# Altium footprint library PCB - SWITCH - NIDEC COPAL CS-4-13NTA.PCBLIB: 1 footprints
Each footprint in its own frame and in the unit in brackets; x right, y up, seen from the top. Pads: shape width x height; smd on the part's side, far side on the other; paste and mask are expansions set on the pad; w line width, h text height; cw(c..) or ccw(c..) is an arc to the next point about the centre after c.
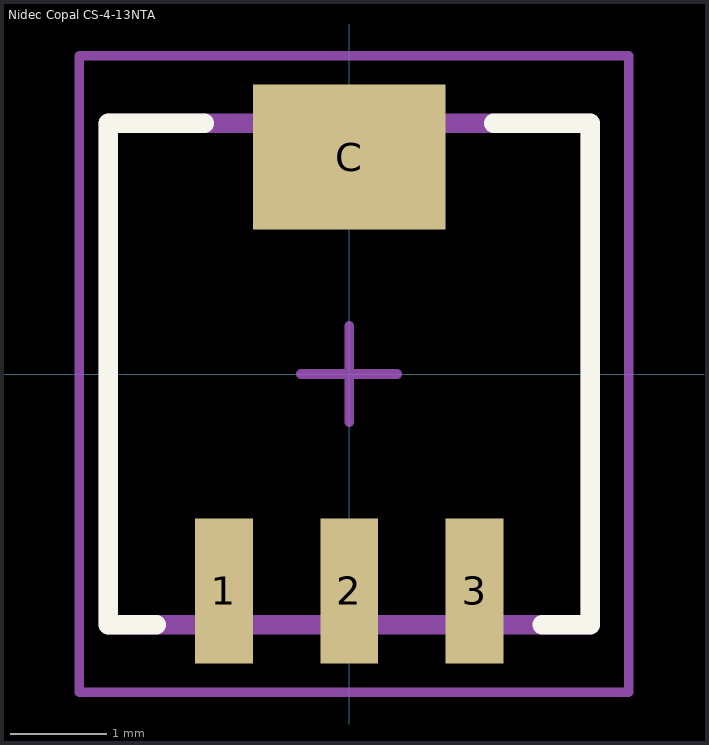
[diagram p0: the footprint, top view; thin cyan lines are the x and y axes]

## Nidec Copal CS-4-13NTA [mm]
height 2.3
pads (4):
  rect 0.6x1.5 smd: 1(-1.3,-2.25) 2(0,-2.25) 3(1.3,-2.25)
  rect 2x1.5 smd: C(0,2.25)
Top Overlay:
  lines w0.2: -2,-2.6 -2.5,-2.6 -2.5,2.6 -1.5,2.6 ; 1.5,2.6 2.5,2.6 2.5,-2.6 2,-2.6
Top Component Outline:
  lines w0.2: -2.5,-2.6 -2.5,2.6 2.5,2.6 2.5,-2.6 -2.5,-2.6
Top Courtyard (Mech15):
  lines w0.1: -0.5,0 0.5,0 ; 0,-0.5 0,0.5 ; -2.8,-3.3 -2.8,3.3 2.9,3.3 2.9,-3.3 -2.8,-3.3
3D body "Nidec Copal CS-4-13NTA.step": height 2.32, standoff 0, extent -2.5,-2.6 2.5,2.6